# Altium footprint library thermostat.PcbLib: 105 footprints (part 3 of 7)
Each footprint in its own frame and in the unit in brackets; x right, y up, seen from the top. Pads: shape width x height; smd on the part's side, far side on the other; paste and mask are expansions set on the pad; w line width, h text height; cw(c..) or ccw(c..) is an arc to the next point about the centre after c.
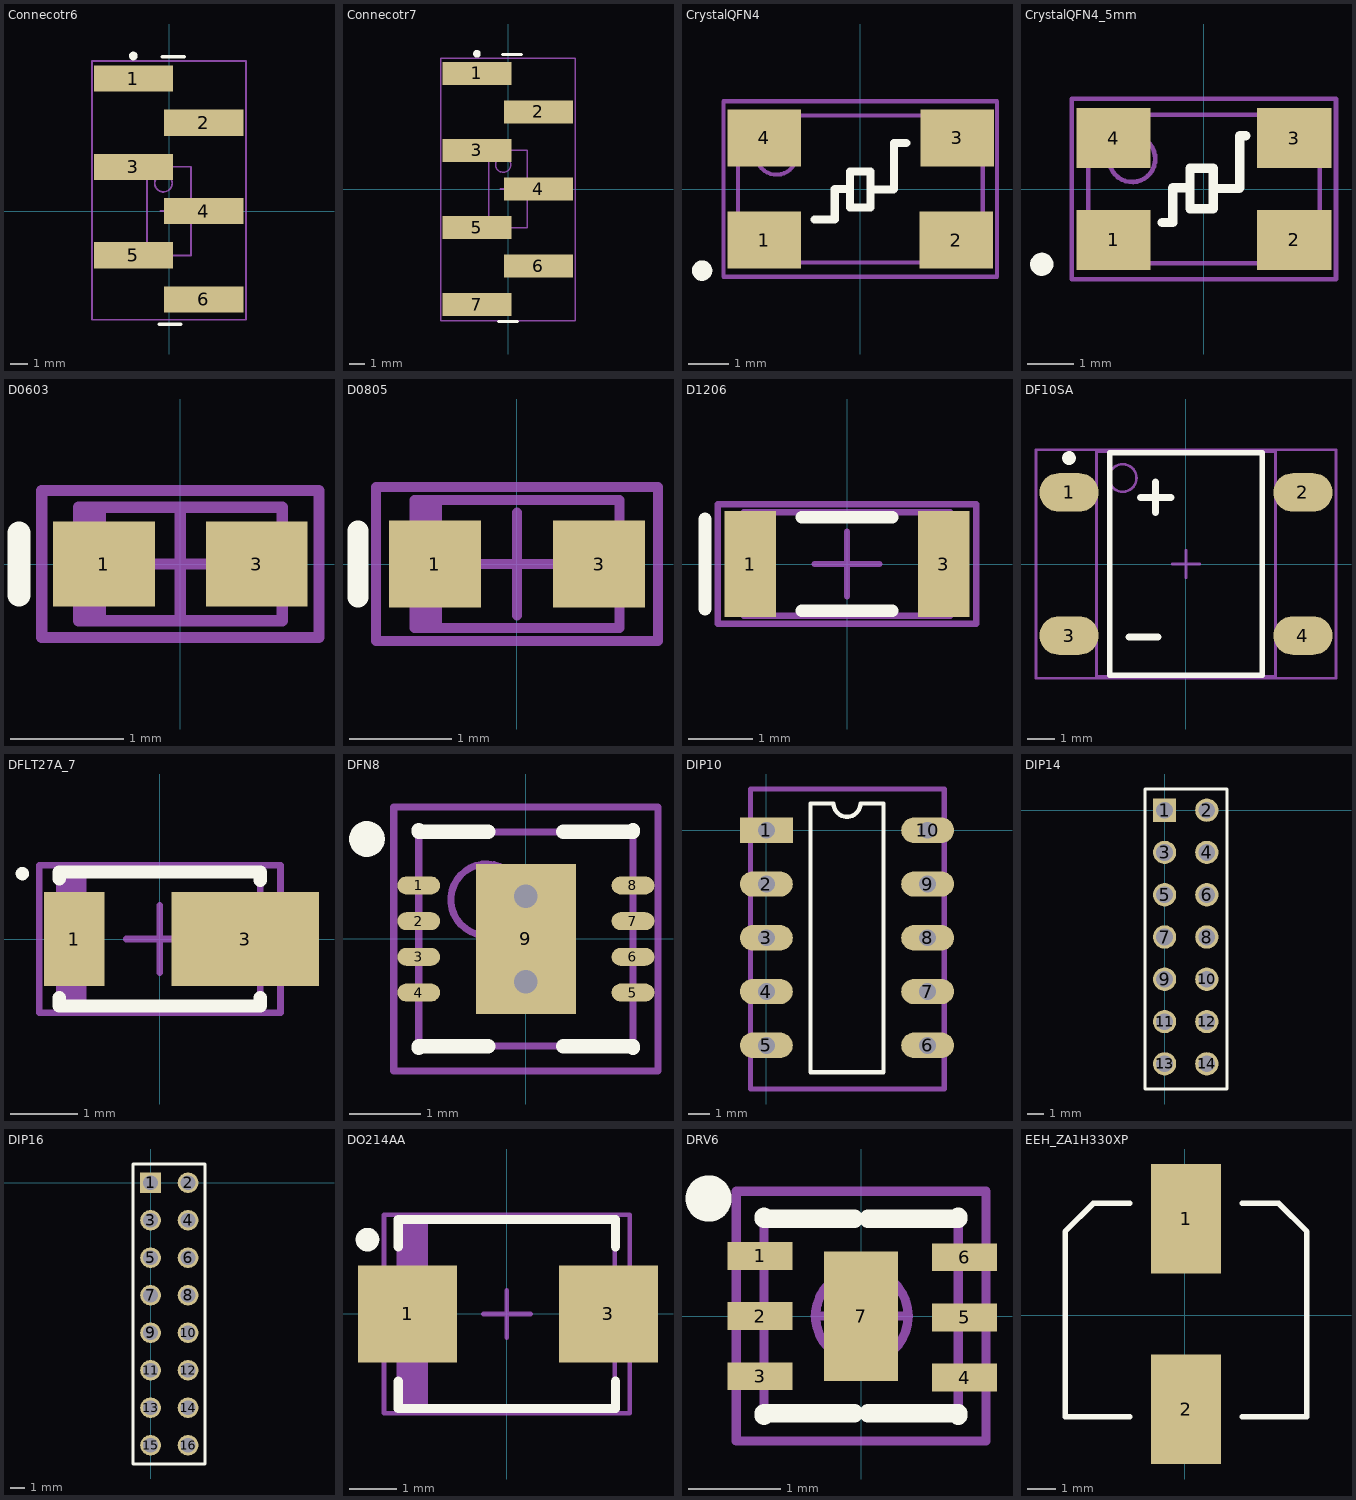
[diagram p2: the footprints below, top view; thin cyan lines are the x and y axes]

## Connecotr6 [mm]
height 10
pads (6):
  rect 4.55x1.5 smd: 1(-2.05,7.62) 2(2,5.08) 3(-2.05,2.54) 4(2,0) 5(-2.05,-2.54) 6(2,-5.08)
Top Overlay:
  circle w0.25: c-2.05,8.92 r0.125
  lines w0.2: -0.575,-6.5 0.675,-6.5 ; -0.375,8.875 0.875,8.875
Mechanical 13:
  circle w0.1: c-0.32,1.6 r0.5
  lines w0.1: -1.27,-2.55 -1.27,2.55 1.27,2.55 1.27,-2.55 -1.27,-2.55
Mechanical 15:
  lines w0.1: -0.5,0 0.5,0 ; 0,-0.5 0,0.5 ; -4.425,-6.25 -4.425,8.625 4.425,8.625 4.425,-6.25 -4.425,-6.25
3D body: height 7, standoff 0.4, extent -1.27,-6.025 1.27,8.525

## Connecotr7 [mm]
height 10
pads (7):
  rect 4.55x1.5 smd: 1(-2.05,7.62) 2(2,5.08) 3(-2.05,2.54) 4(2,0) 5(-2.05,-2.54) 6(2,-5.08) 7(-2.05,-7.62)
Top Overlay:
  circle w0.25: c-2.05,8.92 r0.125
  lines w0.2: -0.625,-8.75 0.625,-8.75 ; -0.375,8.875 0.875,8.875
Mechanical 13:
  circle w0.1: c-0.32,1.6 r0.5
  lines w0.1: -1.27,-2.55 1.27,-2.55 1.27,2.55 -1.27,2.55 -1.27,-2.55
Mechanical 15:
  lines w0.1: -0.5,0 0.5,0 ; 0,-0.5 0,0.5 ; -4.425,-8.7 4.425,-8.7 4.425,8.625 -4.425,8.625 -4.425,-8.7
3D body: height 7, standoff 0.4, extent -1.27,-8.6 1.27,8.525

## CrystalQFN4 [mm] "QFN, 4-Leads, Body 3,6x6,0mm (max), Pitch 0,50mm, Pitch1 2,50mm, IPC High Density"
height 1.2
pads (4):
  rect 1.8x1.4 smd: 1(-2.35,-1.25) 2(2.35,-1.25) 3(2.375,1.25) 4(-2.35,1.25)
Top Overlay:
  circle w0.25: c-3.875,-2 r0.125
  lines w0.2: -1.125,-0.75 -0.625,-0.75 -0.625,0 -0.275,0 ; 0.25,-0.012 0.813,-0.012 0.825,0 0.825,1.125 1.125,1.125 ; -0.25,-0.45 -0.25,0.425 0.25,0.425 0.25,-0.45 -0.25,-0.45
Mechanical 13:
  circle w0.1: c-2.05,0.85 r0.5
  lines w0.1: -3,-1.8 -3,1.8 3,1.8 3,-1.8 -3,-1.8
Mechanical 15:
  lines w0.1: -3.35,-2.15 -3.35,2.15 3.35,2.15 3.35,-2.15 -3.35,-2.15
3D body: height 1.2, standoff 0.1, extent -3,-1.8 3,1.8

## CrystalQFN4_5mm [mm] "QFN, 4-Leads, Body 3,2x5,0mm (max), Pitch 0,50mm, Pitch1 2,20mm, IPC High Density"
height 0.85
pads (4):
  rect 1.6x1.3 smd: 1(-1.95,-1.1) 2(1.95,-1.1) 3(1.95,1.1) 4(-1.95,1.1)
Top Overlay:
  circle w0.25: c-3.5,-1.625 r0.125
  lines w0.2: -0.9,-0.725 -0.675,-0.725 -0.675,0.025 -0.325,0.025 ; 0.2,0.013 0.763,0.013 0.775,0.025 0.775,1.15 0.9,1.15 ; -0.3,-0.425 0.2,-0.425 0.2,0.45 -0.3,0.45 -0.3,-0.425
Mechanical 13:
  circle w0.1: c-1.55,0.65 r0.5
  lines w0.1: -2.5,-1.6 2.5,-1.6 2.5,1.6 -2.5,1.6 -2.5,-1.6
Mechanical 15:
  lines w0.1: -2.85,-1.95 2.85,-1.95 2.85,1.95 -2.85,1.95 -2.85,-1.95
3D body: height 0.85, standoff 0.1, extent -2.5,-1.6 2.5,1.6

## D0603 [mm] "Molded Diode, 2-Leads, Body 1,7x0,9mm, IPC High Density"
height 0.85
pads (2):
  rect 0.9x0.75 smd: 1(-0.675,0) 3(0.675,0)
Top Overlay:
  lines w0.2: -1.425,-0.275 -1.425,0.275
Mechanical 13:
  rectangle: -0.9,-0.5 -0.658,0.5
  lines w0.1: -0.9,-0.5 0.9,-0.5 0.9,0.5 -0.9,0.5 -0.9,-0.5
Mechanical 15:
  lines w0.1: -0.5,0 0.5,0 ; 0,-0.5 0,0.5 ; -1.225,-0.65 1.225,-0.65 1.225,0.65 -1.225,0.65 -1.225,-0.65
3D body: height 0.85, standoff 0, extent -0.9,-0.5 0.9,0.5

## D0805 [mm]
height 1.2
pads (2):
  rect 0.9x0.85 smd: 1(-0.8,0) 3(0.8,0)
Top Overlay:
  lines w0.2: -1.55,-0.325 -1.55,0.325
Mechanical 13:
  rectangle: -1,-0.625 -0.731,0.625
  lines w0.1: -1,-0.625 1,-0.625 1,0.625 -1,0.625 -1,-0.625
Mechanical 15:
  lines w0.1: -0.5,0 0.5,0 ; 0,-0.5 0,0.5 ; -1.375,-0.75 1.375,-0.75 1.375,0.75 -1.375,0.75 -1.375,-0.75
3D body: height 1.1, standoff 0, extent -1,-0.625 1,0.625

## D1206 [mm] "1206, 2-Leads, Body 3,2x1,6mm, IPC High Density"
height 0.5
pads (2):
  rect 0.8x1.65 smd: 1(-1.5,0) 3(1.5,0)
Top Overlay:
  lines w0.2: -2.2,-0.7 -2.2,0.7 ; -0.7,-0.725 0.7,-0.725 ; -0.7,0.725 0.7,0.725
Mechanical 13:
  lines w0.1: -1.6,-0.8 1.6,-0.8 1.6,0.8 -1.6,0.8 -1.6,-0.8
Mechanical 15:
  lines w0.1: -0.5,0 0.5,0 ; 0,-0.5 0,0.5 ; -2,-0.925 2,-0.925 2,0.925 -2,0.925 -2,-0.925
3D body: height 0.5, standoff 0, extent -1.6,-0.8 1.6,0.8

## DF10SA [mm] "SOP, 4-Leads, Body 8,1x6,5mm (max), Pitch 5,20mm, IPC High Density"
height 3.3
pads (4):
  oval 2.15x1.4 smd: 1(-4.25,2.6) 2(4.25,2.6) 3(-4.25,-2.6) 4(4.25,-2.6)
Top Overlay:
  circle w0.25: c-4.25,3.85 r0.125
  lines w0.2: -2.775,-4.05 2.775,-4.05 2.775,4.05 -2.775,4.05 -2.775,-4.05
  lines w0.254: -2.075,-2.65 -1.025,-2.65 ; -1.65,2.425 -0.55,2.425 ; -1.1,1.875 -1.1,2.975
Mechanical 13:
  circle w0.1: c-2.3,3.125 r0.5
  lines w0.1: -3.25,-4.075 3.25,-4.075 3.25,4.075 -3.25,4.075 -3.25,-4.075
Mechanical 15:
  lines w0.1: -0.5,0 0.5,0 ; 0,-0.5 0,0.5 ; -5.45,-4.15 5.45,-4.15 5.45,4.15 -5.45,4.15 -5.45,-4.15
3D body: height 3.3, standoff 0.2, extent -3.25,-4.075 3.25,4.075

## DFLT27A_7 [mm] "Molded Diode, 2-Leads, Body 2,8x1,8mm, IPC High Density"
height 1
pads (2):
  rect 0.9x1.4 smd: 1(-1.275,0)
  rect 2.2x1.4 smd: 3(1.275,0)
Top Overlay:
  circle w0.1: c-2.05,0.975 r0.05
  lines w0.2: -1.5,-0.875 -1.5,-1 1.5,-1 1.5,-0.875 ; -1.5,0.9 -1.5,1 1.5,1 1.5,0.875
Mechanical 13:
  rectangle: -1.5,-0.965 -1.097,0.965
  lines w0.1: -1.5,-0.965 -1.5,0.965 1.5,0.965 1.5,-0.965 -1.5,-0.965
Mechanical 15:
  lines w0.1: -0.5,0 0.5,0 ; 0,-0.5 0,0.5 ; -1.8,-1.1 -1.8,1.1 1.8,1.1 1.8,-1.1 -1.8,-1.1
3D body: height 1, standoff 0, extent -1.5,-0.965 1.5,0.965

## DFN8 [mm]
height 0.9
pads (9):
  oval 0.6x0.25 smd: 1(-1.5,0.75) 2(-1.5,0.25) 3(-1.5,-0.25) 4(-1.5,-0.75) 5(1.5,-0.75) 6(1.5,-0.25) 7(1.5,0.25) 8(1.5,0.75)
  rect 1.4x2.1 smd: 9(0,0)
via 0,0.6 diameter 0.66 hole 0.33
via 0,-0.6 diameter 0.66 hole 0.33
Top Overlay:
  circle w0.25: c-2.225,1.4 r0.125
  lines w0.2: -1.5,-1.525 -1.5,-1.5 -0.525,-1.5 ; -1.5,1.525 -1.5,1.5 -0.525,1.5 ; 0.525,-1.5 1.5,-1.5 1.5,-1.525 ; 0.525,1.5 1.5,1.5 1.5,1.525
Mechanical 13:
  circle w0.1: c-0.55,0.55 r0.5
  lines w0.1: -1.5,-1.5 -1.5,1.5 1.5,1.5 1.5,-1.5 -1.5,-1.5
Mechanical 15:
  lines w0.1: -0.5,0 0.5,0 ; 0,-0.5 0,0.5 ; -1.85,-1.85 -1.85,1.85 1.85,1.85 1.85,-1.85 -1.85,-1.85
3D body: height 0.9, standoff 0.1, extent -1.5,-1.5 1.5,1.5

## DIP10 [mm]
pads (10):
  rect 2.5x1.2 hole 0.8: 1(0,0)
  oval 2.5x1.2 hole 0.8: 2(0,-2.54) 3(0,-5.08) 4(0,-7.62) 5(0,-10.16) 6(7.62,-10.16) 7(7.62,-7.62) 8(7.62,-5.08) 9(7.62,-2.54) 10(7.62,0)
Top Overlay:
  lines w0.2: 2.085,-11.43 5.535,-11.43 5.535,1.27 4.445,1.27 cw(c3.81,1.27) 3.175,1.27 2.085,1.27 2.085,-11.43
Mechanical 15:
  lines w0.254: 8.375,-12.225 -0.75,-12.225 -0.75,1.95 8.4,1.95 8.4,-12.225
3D body: height 5, standoff 0.1, extent -0.75,-12.225 8.4,1.95

## DIP14 [mm]
height 8
pads (14):
  rect 1.4x1.4 hole 1: 1(0,0)
  round 1.4 hole 1: 2(2.54,0) 3(0,-2.54) 4(2.54,-2.54) 5(0,-5.08) 6(2.54,-5.08) 7(0,-7.62) 8(2.54,-7.62) 9(0,-10.16) 10(2.54,-10.16) 11(0,-12.7) 12(2.54,-12.7) 13(0,-15.24) 14(2.54,-15.24)
Top Overlay:
  lines w0.2: 0.635,1.27 3.75,1.27 3.75,-16.75 -1.175,-16.75 -1.175,1.27 1.905,1.27
3D body: height 8.64, standoff 0.1, extent -0.744,-16.35 3.25,1

## DIP16 [mm]
height 8
pads (16):
  rect 1.4x1.4 hole 1: 1(0,0)
  round 1.4 hole 1: 2(2.54,0) 3(0,-2.54) 4(2.54,-2.54) 5(0,-5.08) 6(2.54,-5.08) 7(0,-7.62) 8(2.54,-7.62) 9(0,-10.16) 10(2.54,-10.16) 11(0,-12.7) 12(2.54,-12.7) 13(0,-15.24) 14(2.54,-15.24) 15(0,-17.78) 16(2.54,-17.78)
Top Overlay:
  lines w0.2: 0.635,1.27 3.675,1.27 3.675,-19.05 -1.175,-19.05 -1.175,1.27 1.905,1.27
3D body: height 8.64, standoff 0.1, extent -0.75,-18.75 3.25,1

## DO214AA [mm] "Molded Diode, 2-Leads, Body 4,3x3,6mm, IPC High Density"
height 2.44
pads (2):
  rect 2.1x2.05 smd: 1(-2.1,0) 3(2.15,0)
Top Overlay:
  circle w0.25: c-2.95,1.575 r0.125
  lines w0.2: -2.3,-1.425 -2.3,-2 2.3,-2 2.3,-1.425 ; -2.3,1.425 -2.3,2 2.3,2 2.3,1.425
Mechanical 13:
  rectangle: -2.285,-1.97 -1.67,1.97
  lines w0.1: -2.285,-1.97 -2.285,1.97 2.285,1.97 2.285,-1.97 -2.285,-1.97
Mechanical 15:
  lines w0.1: -0.5,0 0.5,0 ; 0,-0.5 0,0.5 ; -2.6,-2.1 -2.6,2.1 2.6,2.1 2.6,-2.1 -2.6,-2.1
3D body: height 2.44, standoff 0, extent -2.285,-1.97 2.285,1.97

## DRV6 [mm] "DRV6, 6-Leads, Body 2,1x2,1mm (max), Pitch 0,65mm, IPC High Density"
height 0.8
pads (7):
  rect 0.7x0.3 smd: 1(-1.092,0.65) 2(-1.092,0) 3(-1.092,-0.65) 4(1.118,-0.665) 5(1.118,-0.015) 6(1.118,0.635)
  rect 0.8x1.4 smd: 7(0,0)
Top Overlay:
  circle w0.25: c-1.649,1.27 r0.125
  lines w0.2: -1.05,-1.075 -1.05,-1.05 -0.075,-1.05 ; -1.05,1.075 -1.05,1.05 -0.075,1.05 ; 0.075,-1.05 1.05,-1.05 1.05,-1.075 ; 0.075,1.05 1.05,1.05 1.05,1.075
Mechanical 13:
  circle w0.1: c0.008,0 r0.5
  lines w0.1: -1.05,-1.05 -1.05,1.05 1.05,1.05 1.05,-1.05 -1.05,-1.05
Mechanical 15:
  lines w0.1: -0.5,0 0.5,0 ; 0,-0.5 0,0.5 ; -1.35,-1.35 -1.35,1.35 1.35,1.35 1.35,-1.35 -1.35,-1.35
3D body: height 0.8, standoff 0.01, extent -1.05,-1.05 1.05,1.05

## EEH_ZA1H330XP [mm] "CAP ALUM 33UF 50V 20% SMD"
height 8
pads (2):
  rect 2.5x3.9 smd: 1(0.05,3.425) 2(0.05,-3.35)
Top Overlay:
  lines w0.2: -1.95,-3.625 -4.25,-3.625 -4.25,2.975 ; -1.95,3.975 -3.25,3.975 -4.25,2.975 ; 2.05,-3.625 4.35,-3.625 4.35,2.975 ; 2.05,3.975 3.35,3.975 4.35,2.975 ; -4.25,2.975 -4.25,2.975 ; 4.35,2.975 4.35,2.975
3D body: height 10.3, standoff -0.2, extent -4.2,-4.773 4.3,4.927